# EAGLE library part TLC555 (library omcReferences)
TLC555 - LinCMOS Timer Very Low Power Consumption 1 mW Typ at VDD = 5 V Capable of Operation in Astable Mode CMOS Output Capable of Swinging Rail to Rail High Output-Current Capability Sink 100 mA Typ Source 10 mA Typ Output Fully Compatible With CMOS, TTL, and MOS Low Supply Current Reduces Spikes During Output Transitions Single-Supply Operation From 2 V to 15 V Functionally Interchangeable With the NE555; Has Same Pinout Datasheet Texas Instruments <http://www.ti.com/lit/ds/symlink/tlc555.pdf> Reichelt <https://cdn-reichelt.de/documents/datenblatt/A200/TLC555-TI.pdf>
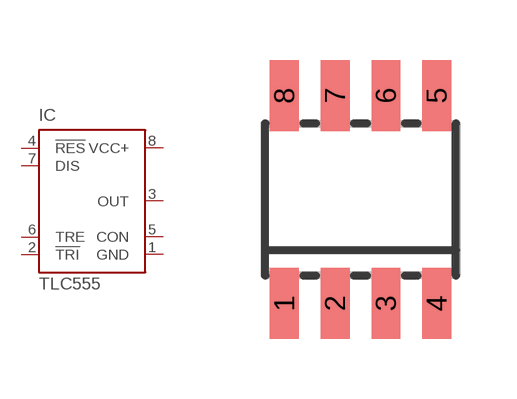
[diagram p2: symbol with the pads of SOIC08; footprint SOIC08]

Designator prefix IC

## TLC555ID (DIST#REICHELT#: TLC 555 ID; VALUE: TLC555; VENDOR#: TI,TLC555ID)  [SOIC08]
1  GND  pwr
2  !TRI  in
3  OUT  out
4  !RES  in
5  CON  in
6  TRE  in
7  DIS  in
8  VCC+  pwr

## Footprint SOIC08 (pad centres in mm)
SOIC08 SMD 5mm×6.2mm Wikipedia <https://en.wikipedia.org/wiki/Small_Outline_Integrated_Circuit>
smd 0.72 x 1.78: 1 -1.905,-2.6; 2 -0.635,-2.6; 3 0.635,-2.6; 4 1.905,-2.6; 5 1.905,2.6; 6 0.635,2.6; 7 -0.635,2.6; 8 -1.905,2.6